# Altium footprint library 3V3 1.5A LDO.PcbLib: 3 footprints
Each footprint in its own frame and in the unit in brackets; x right, y up, seen from the top. Pads: shape width x height; smd on the part's side, far side on the other; paste and mask are expansions set on the pad; w line width, h text height; cw(c..) or ccw(c..) is an arc to the next point about the centre after c.
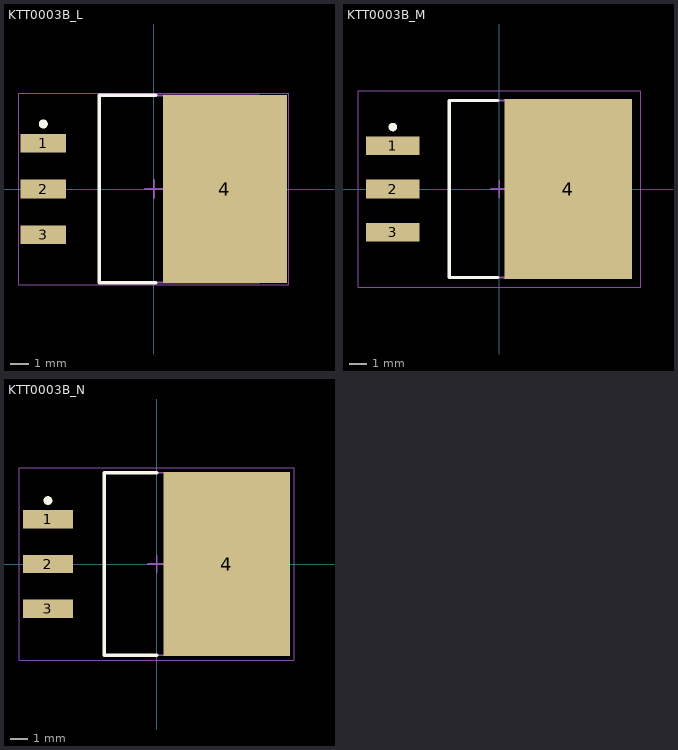
[diagram p0: the footprints below, top view; thin cyan lines are the x and y axes]

## KTT0003B_L [mm] "D2-PAK, 3-Leads, Body 10.41x8.89mm, Pitch 2.54mm, IPC High Density"
height 4.64
pads (4):
  rect 2.55x1.05 smd: 1(-6.15,2.54) 2(-6.15,0) 3(-6.15,-2.54)
  rect 6.9x10.45 smd: 4(3.95,0)
Top Overlay:
  circle w0.25: c-6.15,3.615 r0.125
  lines w0.2: 0.1,-5.2 -3.05,-5.2 -3.05,5.2 0.1,5.2
Mechanical 1:
  text ".Designator" at -1.651,-0.508 h1.2
Mechanical 13:
  lines w0.1: -3.05,-5.2 -3.05,5.2 5.84,5.2 5.84,-5.2 -3.05,-5.2
Mechanical 15:
  lines w0.05: -7.5,-5.325 -7.5,5.325 7.5,5.325 7.5,-5.325 -7.5,-5.325
  lines w0.1: -0.5,0 0.5,0 ; 0,-0.5 0,0.5
3D body "KTT0003B_L.step": height 4.64, standoff 0, extent -6.825,-5.2 7.525,5.2

## KTT0003B_M [mm] "D2-PAK, 3-Leads, Body 10.41x8.89mm, Pitch 2.54mm, IPC Low Density"
height 4.64
pads (4):
  rect 3.15x1.1 smd: 1(-6.25,2.54) 2(-6.25,0) 3(-6.25,-2.54)
  rect 7.5x10.55 smd: 4(4.05,0)
Top Overlay:
  circle w0.25: c-6.25,3.64 r0.125
  lines w0.2: -0.1,-5.2 -2.95,-5.2 -2.95,5.2 -0.1,5.2
Mechanical 1:
  text ".Designator" at -1.651,-0.508 h1.2
Mechanical 13:
  lines w0.1: -2.95,-5.2 -2.95,5.2 5.94,5.2 5.94,-5.2 -2.95,-5.2
Mechanical 15:
  lines w0.05: -8.3,-5.775 -8.3,5.775 8.3,5.775 8.3,-5.775 -8.3,-5.775
  lines w0.1: -0.5,0 0.5,0 ; 0,-0.5 0,0.5
3D body "KTT0003B_M.step": height 4.64, standoff 0, extent -6.675,-5.2 7.675,5.2

## KTT0003B_N [mm] "D2-PAK, 3-Leads, Body 10.41x8.89mm, Pitch 2.54mm, IPC Medium Density"
height 4.64
pads (4):
  rect 2.85x1.05 smd: 1(-6.2,2.54) 2(-6.2,0) 3(-6.2,-2.54)
  rect 7.2x10.5 smd: 4(4,0)
Top Overlay:
  circle w0.25: c-6.2,3.615 r0.125
  lines w0.2: 0,-5.2 -3,-5.2 -3,5.2 0,5.2
Mechanical 1:
  text ".Designator" at -1.651,-0.508 h1.2
Mechanical 13:
  lines w0.1: -3,-5.2 -3,5.2 5.89,5.2 5.89,-5.2 -3,-5.2
Mechanical 15:
  lines w0.05: -7.85,-5.5 -7.85,5.5 7.85,5.5 7.85,-5.5 -7.85,-5.5
  lines w0.1: -0.5,0 0.5,0 ; 0,-0.5 0,0.5
3D body "KTT0003B_N.step": height 4.64, standoff 0, extent -6.775,-5.2 7.575,5.2